# EAGLE library part NC7WZ14EP6X (library 1_25_NC7WZ14EP6X)
ON Semiconductor NC7WZ14EP6X Dual Schmitt Trigger Inverter, 6-Pin SC-70 Source: Datasheet <https://www.onsemi.com/pub/Collateral/NC7WZ14-D.PDF>
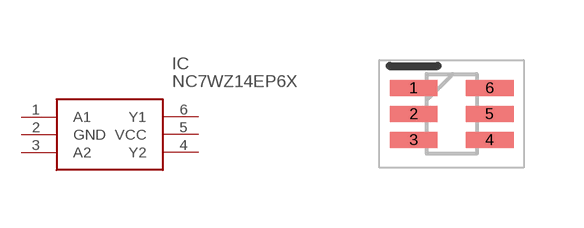
[diagram p0: symbol with the pads of SOT65P210X110-6N; footprint SOT65P210X110-6N]

Designator prefix IC

## NC7WZ14EP6X (Arrow_Part_Number: NC7WZ14EP6X; Arrow_Price-Stock: https://www.arrow.com/en/products/nc7wz14ep6x/on-semiconductor; Description: ON Semiconductor NC7WZ14EP6X Dual Schmitt Trigger Inverter, 6-Pin SC-70; Height: 1.1mm; Manufacturer_Name: ON Semiconductor; Manufacturer_Part_Number: NC7WZ14EP6X; Mouser_Part_Number: 512-NC7WZ14EP6X; Mouser_Price-Stock: https://www.mouser.co.uk/ProductDetail/ON-Semiconductor-Fairchild/NC7WZ14EP6X?qs=GBxGW0xXju%252BZ6UTsifh1Cg%3D%3D)  [SOT65P210X110-6N]
1  A1
2  GND
3  A2
4  Y2
5  VCC
6  Y1

## Footprint SOT65P210X110-6N (pad centres in mm)
SC−88 (SC−70 6 Lead), 1.25x2
smd 1.2 x 0.4: 1 -0.95,0.65; 2 -0.95,0; 3 -0.95,-0.65; 4 0.95,-0.65; 5 0.95,0; 6 0.95,0.65